# Altium footprint library PcbLib1.PcbLib: 2 footprints
Each footprint in its own frame and in the unit in brackets; x right, y up, seen from the top. Pads: shape width x height; smd on the part's side, far side on the other; paste and mask are expansions set on the pad; w line width, h text height; cw(c..) or ccw(c..) is an arc to the next point about the centre after c.
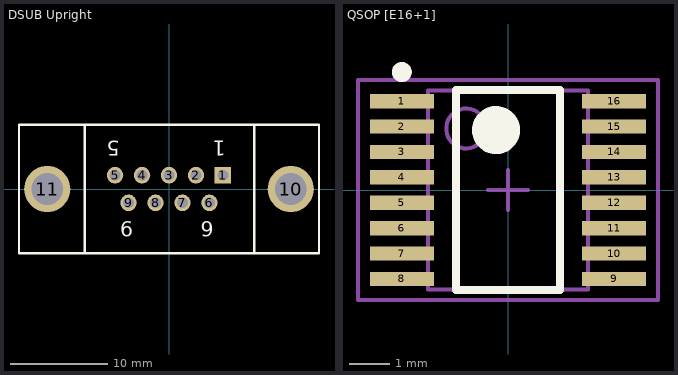
[diagram p0: the footprints below, top view; thin cyan lines are the x and y axes]

## DSUB Upright [mm] "171-009-213R911"
pads (11):
  rect 1.69x1.69 hole 1.09: 1(5.54,1.42)
  round 1.69 hole 1.09: 2(2.77,1.42) 3(0,1.42) 4(-2.77,1.42) 5(-5.54,1.42) 6(4.153,-1.42) 7(1.384,-1.42) 8(-1.384,-1.42) 9(-4.153,-1.42)
  round 4.76 hole 3.26: 10(12.5,0) 11(-12.5,0)
Top Overlay:
  lines w0.254: -8.636,-6.6 -8.636,6.604 ; 8.763,-6.6 8.763,6.6 ; -15.4,-6.6 15.4,-6.6 15.4,6.6 -15.4,6.6 -15.4,-6.6
  text "1" at 5.842,4.953 h1.52
  text "5" at -5.08,4.953 h1.52
  text "6" at 4.572,-3.302 h1.52
  text "9" at -3.683,-3.302 h1.52

## QSOP [E16+1] [mm] "SOP, 16-Leads, Body 5.0x4.0mm (max), Pitch 0.63mm, IPC Medium Density"
height 1.75
pads (16):
  rect 1.6x0.356 smd: 1(-2.655,2.222) 2(-2.655,1.587) 3(-2.655,0.953) 4(-2.655,0.318) 5(-2.655,-0.318) 6(-2.655,-0.953) 7(-2.655,-1.587) 8(-2.655,-2.222) 9(2.654,-2.222) 10(2.654,-1.587) 11(2.654,-0.953) 12(2.654,-0.318) 13(2.654,0.318) 14(2.654,0.953) 15(2.654,1.587) 16(2.654,2.222)
Top Overlay:
  circle w0.25: c-2.655,2.95 r0.125
  circle w0.6: c-0.3,1.5 r0.3
  lines w0.2: -1.3,-2.5 -1.3,2.5 1.3,2.5 1.3,-2.5 -1.3,-2.5
Mechanical 13:
  circle w0.1: c-1.045,1.54 r0.5
  lines w0.1: -1.995,-2.49 -1.995,2.49 1.995,2.49 1.995,-2.49 -1.995,-2.49
Mechanical 15:
  lines w0.1: -0.5,0 0.5,0 ; 0,-0.5 0,0.5 ; -3.75,-2.75 -3.75,2.75 3.75,2.75 3.75,-2.75 -3.75,-2.75
3D body: height 1.75, standoff 0.1, extent -1.995,-2.49 1.995,2.49